# Altium schematic symbol library SCH - MCU - STM32 - ST MICROELECTRONICS STM32H725AEIX UFBGA169.SchLib: 1 symbol
Pins are listed as number, name and electrical type; pins without a type are passive.

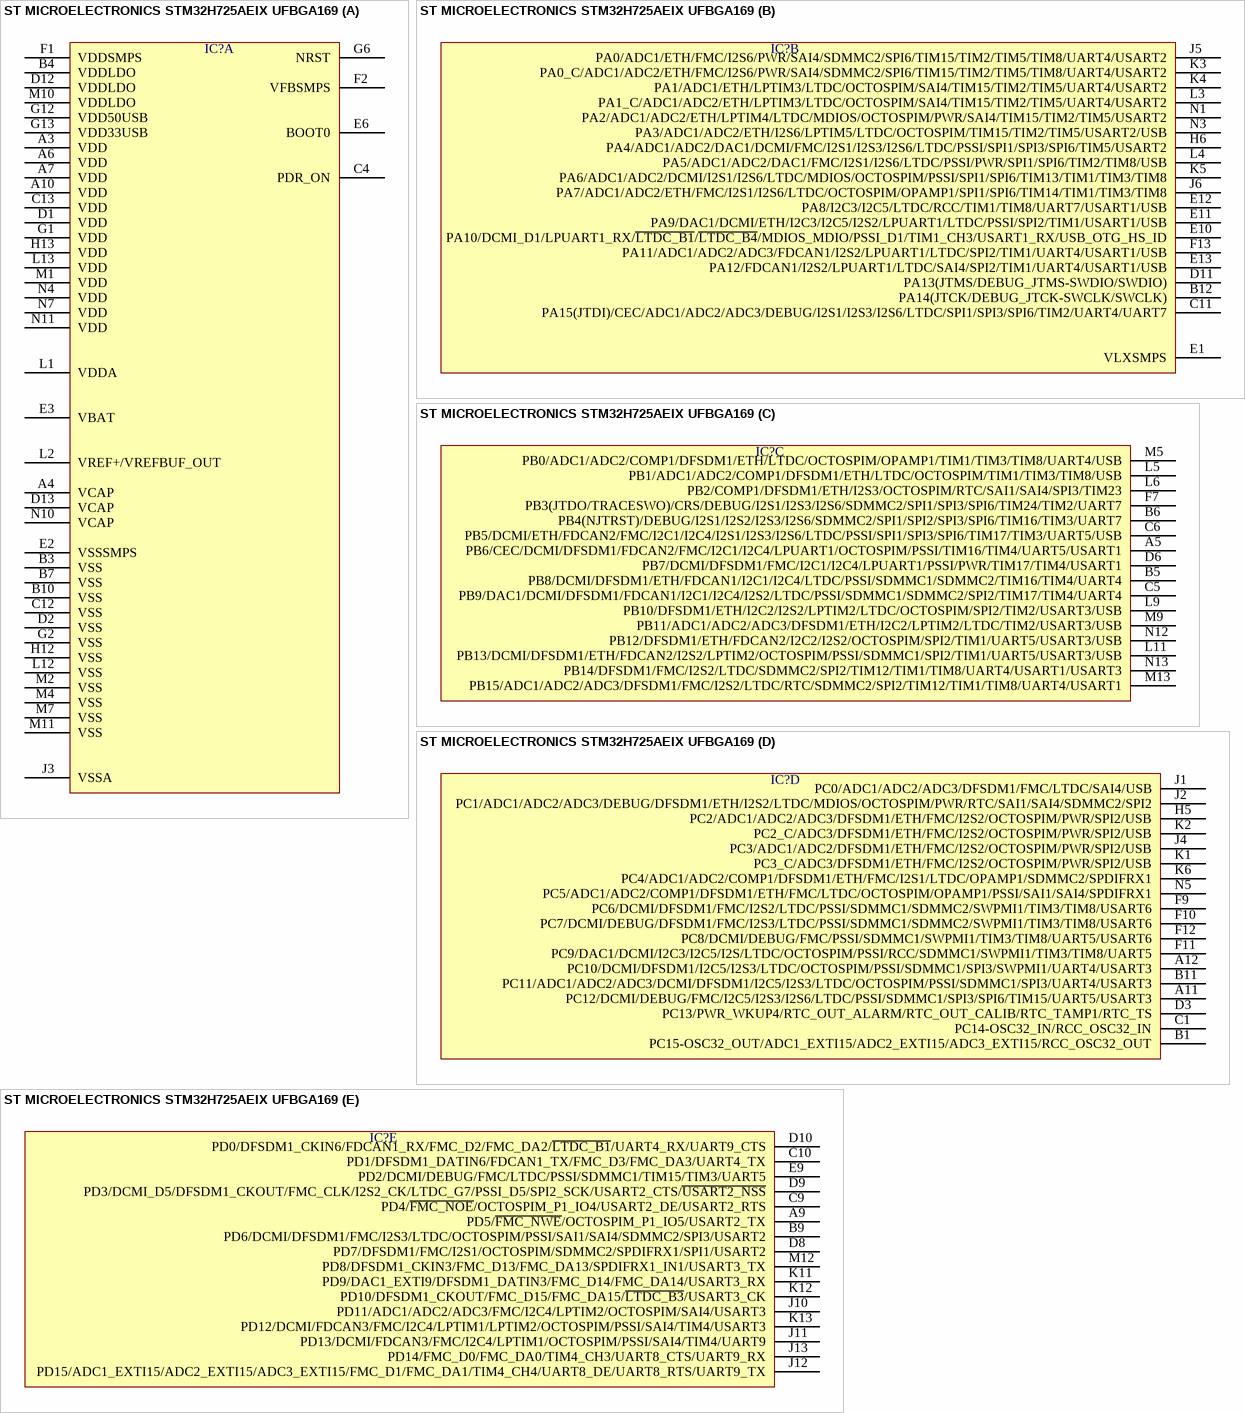
[diagram p0: symbol ST MICROELECTRONICS STM32H725AEIX UFBGA169]

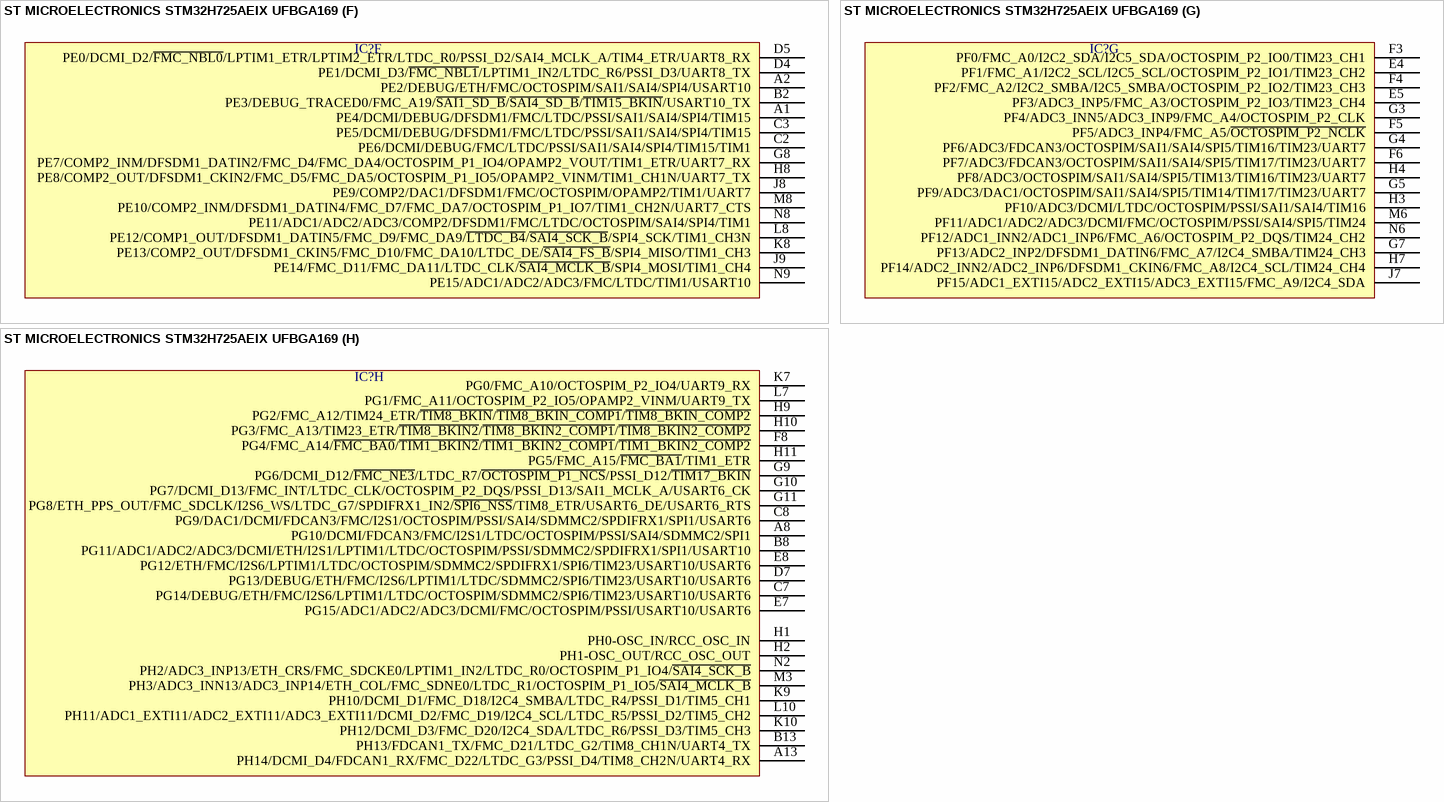
[diagram p1: symbol ST MICROELECTRONICS STM32H725AEIX UFBGA169]

## ST MICROELECTRONICS STM32H725AEIX UFBGA169
designator IC?  (value not drawn)
part A pins: A3 VDD, A4 VCAP, A6 VDD, A7 VDD, A10 VDD, B3 VSS, B4 VDDLDO, B7 VSS, B10 VSS, C4 PDR_ON, C12 VSS, C13 VDD, D1 VDD, D2 VSS, D12 VDDLDO, D13 VCAP, E2 VSSSMPS, E3 VBAT, E6 BOOT0, F1 VDDSMPS, F2 VFBSMPS, G1 VDD, G2 VSS, G6 NRST, G12 VDD50USB, G13 VDD33USB, H12 VSS, H13 VDD, J3 VSSA, L1 VDDA, L2 VREF+/VREFBUF_OUT, L12 VSS, L13 VDD, M1 VDD, M2 VSS, M4 VSS, M7 VSS, M10 VDDLDO, M11 VSS, N4 VDD, N7 VDD, N10 VCAP, N11 VDD
part B pins: B12 PA14(JTCK/DEBUG_JTCK-SWCLK/SWCLK), C11 PA15(JTDI)/CEC/ADC1/ADC2/ADC3/DEBUG/I2S1/I2S3/I2S6/LTDC/SPI1/SPI3/SPI6/TIM2/UART4/UART7, D11 PA13(JTMS/DEBUG_JTMS-SWDIO/SWDIO), E1 VLXSMPS, E10 PA10/DCMI_D1/LPUART1_RX/~{LTDC_B1}/~{LTDC_B4}/MDIOS_MDIO/PSSI_D1/TIM1_CH3/USART1_RX/USB_OTG_HS_ID, E11 PA9/DAC1/DCMI/ETH/I2C3/I2C5/I2S2/LPUART1/LTDC/PSSI/SPI2/TIM1/USART1/USB, E12 PA8/I2C3/I2C5/LTDC/RCC/TIM1/TIM8/UART7/USART1/USB, E13 PA12/FDCAN1/I2S2/LPUART1/LTDC/SAI4/SPI2/TIM1/UART4/USART1/USB, F13 PA11/ADC1/ADC2/ADC3/FDCAN1/I2S2/LPUART1/LTDC/SPI2/TIM1/UART4/USART1/USB, H6 PA4/ADC1/ADC2/DAC1/DCMI/FMC/I2S1/I2S3/I2S6/LTDC/PSSI/SPI1/SPI3/SPI6/TIM5/USART2, J5 PA0/ADC1/ETH/FMC/I2S6/PWR/SAI4/SDMMC2/SPI6/TIM15/TIM2/TIM5/TIM8/UART4/USART2, J6 PA7/ADC1/ADC2/ETH/FMC/I2S1/I2S6/LTDC/OCTOSPIM/OPAMP1/SPI1/SPI6/TIM14/TIM1/TIM3/TIM8, K3 PA0_C/ADC1/ADC2/ETH/FMC/I2S6/PWR/SAI4/SDMMC2/SPI6/TIM15/TIM2/TIM5/TIM8/UART4/USART2, K4 PA1/ADC1/ETH/LPTIM3/LTDC/OCTOSPIM/SAI4/TIM15/TIM2/TIM5/UART4/USART2, K5 PA6/ADC1/ADC2/DCMI/I2S1/I2S6/LTDC/MDIOS/OCTOSPIM/PSSI/SPI1/SPI6/TIM13/TIM1/TIM3/TIM8, L3 PA1_C/ADC1/ADC2/ETH/LPTIM3/LTDC/OCTOSPIM/SAI4/TIM15/TIM2/TIM5/UART4/USART2, L4 PA5/ADC1/ADC2/DAC1/FMC/I2S1/I2S6/LTDC/PSSI/PWR/SPI1/SPI6/TIM2/TIM8/USB, N1 PA2/ADC1/ADC2/ETH/LPTIM4/LTDC/MDIOS/OCTOSPIM/PWR/SAI4/TIM15/TIM2/TIM5/USART2, N3 PA3/ADC1/ADC2/ETH/I2S6/LPTIM5/LTDC/OCTOSPIM/TIM15/TIM2/TIM5/USART2/USB
part C pins: A5 PB6/CEC/DCMI/DFSDM1/FDCAN2/FMC/I2C1/I2C4/LPUART1/OCTOSPIM/PSSI/TIM16/TIM4/UART5/USART1, B5 PB8/DCMI/DFSDM1/ETH/FDCAN1/I2C1/I2C4/LTDC/PSSI/SDMMC1/SDMMC2/TIM16/TIM4/UART4, B6 PB4(NJTRST)/DEBUG/I2S1/I2S2/I2S3/I2S6/SDMMC2/SPI1/SPI2/SPI3/SPI6/TIM16/TIM3/UART7, C5 PB9/DAC1/DCMI/DFSDM1/FDCAN1/I2C1/I2C4/I2S2/LTDC/PSSI/SDMMC1/SDMMC2/SPI2/TIM17/TIM4/UART4, C6 PB5/DCMI/ETH/FDCAN2/FMC/I2C1/I2C4/I2S1/I2S3/I2S6/LTDC/PSSI/SPI1/SPI3/SPI6/TIM17/TIM3/UART5/USB, D6 PB7/DCMI/DFSDM1/FMC/I2C1/I2C4/LPUART1/PSSI/PWR/TIM17/TIM4/USART1, F7 PB3(JTDO/TRACESWO)/CRS/DEBUG/I2S1/I2S3/I2S6/SDMMC2/SPI1/SPI3/SPI6/TIM24/TIM2/UART7, L5 PB1/ADC1/ADC2/COMP1/DFSDM1/ETH/LTDC/OCTOSPIM/TIM1/TIM3/TIM8/USB, L6 PB2/COMP1/DFSDM1/ETH/I2S3/OCTOSPIM/RTC/SAI1/SAI4/SPI3/TIM23, L9 PB10/DFSDM1/ETH/I2C2/I2S2/LPTIM2/LTDC/OCTOSPIM/SPI2/TIM2/USART3/USB, L11 PB13/DCMI/DFSDM1/ETH/FDCAN2/I2S2/LPTIM2/OCTOSPIM/PSSI/SDMMC1/SPI2/TIM1/UART5/USART3/USB, M5 PB0/ADC1/ADC2/COMP1/DFSDM1/ETH/LTDC/OCTOSPIM/OPAMP1/TIM1/TIM3/TIM8/UART4/USB, M9 PB11/ADC1/ADC2/ADC3/DFSDM1/ETH/I2C2/LPTIM2/LTDC/TIM2/USART3/USB, M13 PB15/ADC1/ADC2/ADC3/DFSDM1/FMC/I2S2/LTDC/RTC/SDMMC2/SPI2/TIM12/TIM1/TIM8/UART4/USART1, N12 PB12/DFSDM1/ETH/FDCAN2/I2C2/I2S2/OCTOSPIM/SPI2/TIM1/UART5/USART3/USB, N13 PB14/DFSDM1/FMC/I2S2/LTDC/SDMMC2/SPI2/TIM12/TIM1/TIM8/UART4/USART1/USART3
part D pins: A11 PC12/DCMI/DEBUG/FMC/I2C5/I2S3/I2S6/LTDC/PSSI/SDMMC1/SPI3/SPI6/TIM15/UART5/USART3, A12 PC10/DCMI/DFSDM1/I2C5/I2S3/LTDC/OCTOSPIM/PSSI/SDMMC1/SPI3/SWPMI1/UART4/USART3, B1 PC15-OSC32_OUT/ADC1_EXTI15/ADC2_EXTI15/ADC3_EXTI15/RCC_OSC32_OUT, B11 PC11/ADC1/ADC2/ADC3/DCMI/DFSDM1/I2C5/I2S3/LTDC/OCTOSPIM/PSSI/SDMMC1/SPI3/UART4/USART3, C1 PC14-OSC32_IN/RCC_OSC32_IN, D3 PC13/PWR_WKUP4/RTC_OUT_ALARM/RTC_OUT_CALIB/RTC_TAMP1/RTC_TS, F9 PC6/DCMI/DFSDM1/FMC/I2S2/LTDC/PSSI/SDMMC1/SDMMC2/SWPMI1/TIM3/TIM8/USART6, F10 PC7/DCMI/DEBUG/DFSDM1/FMC/I2S3/LTDC/PSSI/SDMMC1/SDMMC2/SWPMI1/TIM3/TIM8/USART6, F11 PC9/DAC1/DCMI/I2C3/I2C5/I2S/LTDC/OCTOSPIM/PSSI/RCC/SDMMC1/SWPMI1/TIM3/TIM8/UART5, F12 PC8/DCMI/DEBUG/FMC/PSSI/SDMMC1/SWPMI1/TIM3/TIM8/UART5/USART6, H5 PC2/ADC1/ADC2/ADC3/DFSDM1/ETH/FMC/I2S2/OCTOSPIM/PWR/SPI2/USB, J1 PC0/ADC1/ADC2/ADC3/DFSDM1/FMC/LTDC/SAI4/USB, J2 PC1/ADC1/ADC2/ADC3/DEBUG/DFSDM1/ETH/I2S2/LTDC/MDIOS/OCTOSPIM/PWR/RTC/SAI1/SAI4/SDMMC2/SPI2, J4 PC3/ADC1/ADC2/DFSDM1/ETH/FMC/I2S2/OCTOSPIM/PWR/SPI2/USB, K1 PC3_C/ADC3/DFSDM1/ETH/FMC/I2S2/OCTOSPIM/PWR/SPI2/USB, K2 PC2_C/ADC3/DFSDM1/ETH/FMC/I2S2/OCTOSPIM/PWR/SPI2/USB, K6 PC4/ADC1/ADC2/COMP1/DFSDM1/ETH/FMC/I2S1/LTDC/OPAMP1/SDMMC2/SPDIFRX1, N5 PC5/ADC1/ADC2/COMP1/DFSDM1/ETH/FMC/LTDC/OCTOSPIM/OPAMP1/PSSI/SAI1/SAI4/SPDIFRX1
part E pins: A9 PD5/~{FMC_NWE}/OCTOSPIM_P1_IO5/USART2_TX, B9 PD6/DCMI/DFSDM1/FMC/I2S3/LTDC/OCTOSPIM/PSSI/SAI1/SAI4/SDMMC2/SPI3/USART2, C9 PD4/~{FMC_NOE}/OCTOSPIM_P1_IO4/USART2_DE/USART2_RTS, C10 PD1/DFSDM1_DATIN6/FDCAN1_TX/FMC_D3/FMC_DA3/UART4_TX, D8 PD7/DFSDM1/FMC/I2S1/OCTOSPIM/SDMMC2/SPDIFRX1/SPI1/USART2, D9 PD3/DCMI_D5/DFSDM1_CKOUT/FMC_CLK/I2S2_CK/LTDC_G7/PSSI_D5/SPI2_SCK/USART2_CTS/~{USART2_NSS}, D10 PD0/DFSDM1_CKIN6/FDCAN1_RX/FMC_D2/FMC_DA2/~{LTDC_B1}/UART4_RX/UART9_CTS, E9 PD2/DCMI/DEBUG/FMC/LTDC/PSSI/SDMMC1/TIM15/TIM3/UART5, J10 PD11/ADC1/ADC2/ADC3/FMC/I2C4/LPTIM2/OCTOSPIM/SAI4/USART3, J11 PD13/DCMI/FDCAN3/FMC/I2C4/LPTIM1/OCTOSPIM/PSSI/SAI4/TIM4/UART9, J12 PD15/ADC1_EXTI15/ADC2_EXTI15/ADC3_EXTI15/FMC_D1/FMC_DA1/TIM4_CH4/UART8_DE/UART8_RTS/UART9_TX, J13 PD14/FMC_D0/FMC_DA0/TIM4_CH3/UART8_CTS/UART9_RX, K11 PD9/DAC1_EXTI9/DFSDM1_DATIN3/FMC_D14/FMC_DA14/USART3_RX, K12 PD10/DFSDM1_CKOUT/FMC_D15/FMC_DA15/~{LTDC_B3}/USART3_CK, K13 PD12/DCMI/FDCAN3/FMC/I2C4/LPTIM1/LPTIM2/OCTOSPIM/PSSI/SAI4/TIM4/USART3, M12 PD8/DFSDM1_CKIN3/FMC_D13/FMC_DA13/SPDIFRX1_IN1/USART3_TX
part F pins: A1 PE4/DCMI/DEBUG/DFSDM1/FMC/LTDC/PSSI/SAI1/SAI4/SPI4/TIM15, A2 PE2/DEBUG/ETH/FMC/OCTOSPIM/SAI1/SAI4/SPI4/USART10, B2 PE3/DEBUG_TRACED0/FMC_A19/~{SAI1_SD_B}/~{SAI4_SD_B}/~{TIM15_BKIN}/USART10_TX, C2 PE6/DCMI/DEBUG/FMC/LTDC/PSSI/SAI1/SAI4/SPI4/TIM15/TIM1, C3 PE5/DCMI/DEBUG/DFSDM1/FMC/LTDC/PSSI/SAI1/SAI4/SPI4/TIM15, D4 PE1/DCMI_D3/~{FMC_NBL1}/LPTIM1_IN2/LTDC_R6/PSSI_D3/UART8_TX, D5 PE0/DCMI_D2/~{FMC_NBL0}/LPTIM1_ETR/LPTIM2_ETR/LTDC_R0/PSSI_D2/SAI4_MCLK_A/TIM4_ETR/UART8_RX, G8 PE7/COMP2_INM/DFSDM1_DATIN2/FMC_D4/FMC_DA4/OCTOSPIM_P1_IO4/OPAMP2_VOUT/TIM1_ETR/UART7_RX, H8 PE8/COMP2_OUT/DFSDM1_CKIN2/FMC_D5/FMC_DA5/OCTOSPIM_P1_IO5/OPAMP2_VINM/TIM1_CH1N/UART7_TX, J8 PE9/COMP2/DAC1/DFSDM1/FMC/OCTOSPIM/OPAMP2/TIM1/UART7, J9 PE14/FMC_D11/FMC_DA11/LTDC_CLK/~{SAI4_MCLK_B}/SPI4_MOSI/TIM1_CH4, K8 PE13/COMP2_OUT/DFSDM1_CKIN5/FMC_D10/FMC_DA10/LTDC_DE/~{SAI4_FS_B}/SPI4_MISO/TIM1_CH3, L8 PE12/COMP1_OUT/DFSDM1_DATIN5/FMC_D9/FMC_DA9/~{LTDC_B4}/~{SAI4_SCK_B}/SPI4_SCK/TIM1_CH3N, M8 PE10/COMP2_INM/DFSDM1_DATIN4/FMC_D7/FMC_DA7/OCTOSPIM_P1_IO7/TIM1_CH2N/UART7_CTS, N8 PE11/ADC1/ADC2/ADC3/COMP2/DFSDM1/FMC/LTDC/OCTOSPIM/SAI4/SPI4/TIM1, N9 PE15/ADC1/ADC2/ADC3/FMC/LTDC/TIM1/USART10
part G pins: E4 PF1/FMC_A1/I2C2_SCL/I2C5_SCL/OCTOSPIM_P2_IO1/TIM23_CH2, E5 PF3/ADC3_INP5/FMC_A3/OCTOSPIM_P2_IO3/TIM23_CH4, F3 PF0/FMC_A0/I2C2_SDA/I2C5_SDA/OCTOSPIM_P2_IO0/TIM23_CH1, F4 PF2/FMC_A2/I2C2_SMBA/I2C5_SMBA/OCTOSPIM_P2_IO2/TIM23_CH3, F5 PF5/ADC3_INP4/FMC_A5/~{OCTOSPIM_P2_NCLK}, F6 PF7/ADC3/FDCAN3/OCTOSPIM/SAI1/SAI4/SPI5/TIM17/TIM23/UART7, G3 PF4/ADC3_INN5/ADC3_INP9/FMC_A4/OCTOSPIM_P2_CLK, G4 PF6/ADC3/FDCAN3/OCTOSPIM/SAI1/SAI4/SPI5/TIM16/TIM23/UART7, G5 PF9/ADC3/DAC1/OCTOSPIM/SAI1/SAI4/SPI5/TIM14/TIM17/TIM23/UART7, G7 PF13/ADC2_INP2/DFSDM1_DATIN6/FMC_A7/I2C4_SMBA/TIM24_CH3, H3 PF10/ADC3/DCMI/LTDC/OCTOSPIM/PSSI/SAI1/SAI4/TIM16, H4 PF8/ADC3/OCTOSPIM/SAI1/SAI4/SPI5/TIM13/TIM16/TIM23/UART7, H7 PF14/ADC2_INN2/ADC2_INP6/DFSDM1_CKIN6/FMC_A8/I2C4_SCL/TIM24_CH4, J7 PF15/ADC1_EXTI15/ADC2_EXTI15/ADC3_EXTI15/FMC_A9/I2C4_SDA, M6 PF11/ADC1/ADC2/ADC3/DCMI/FMC/OCTOSPIM/PSSI/SAI4/SPI5/TIM24, N6 PF12/ADC1_INN2/ADC1_INP6/FMC_A6/OCTOSPIM_P2_DQS/TIM24_CH2
part H pins: A8 PG10/DCMI/FDCAN3/FMC/I2S1/LTDC/OCTOSPIM/PSSI/SAI4/SDMMC2/SPI1, A13 PH14/DCMI_D4/FDCAN1_RX/FMC_D22/LTDC_G3/PSSI_D4/TIM8_CH2N/UART4_RX, B8 PG11/ADC1/ADC2/ADC3/DCMI/ETH/I2S1/LPTIM1/LTDC/OCTOSPIM/PSSI/SDMMC2/SPDIFRX1/SPI1/USART10, B13 PH13/FDCAN1_TX/FMC_D21/LTDC_G2/TIM8_CH1N/UART4_TX, C7 PG14/DEBUG/ETH/FMC/I2S6/LPTIM1/LTDC/OCTOSPIM/SDMMC2/SPI6/TIM23/USART10/USART6, C8 PG9/DAC1/DCMI/FDCAN3/FMC/I2S1/OCTOSPIM/PSSI/SAI4/SDMMC2/SPDIFRX1/SPI1/USART6, D7 PG13/DEBUG/ETH/FMC/I2S6/LPTIM1/LTDC/SDMMC2/SPI6/TIM23/USART10/USART6, E7 PG15/ADC1/ADC2/ADC3/DCMI/FMC/OCTOSPIM/PSSI/USART10/USART6, E8 PG12/ETH/FMC/I2S6/LPTIM1/LTDC/OCTOSPIM/SDMMC2/SPDIFRX1/SPI6/TIM23/USART10/USART6, F8 PG4/FMC_A14/~{FMC_BA0}/~{TIM1_BKIN2}/~{TIM1_BKIN2_COMP1}/~{TIM1_BKIN2_COMP2}, G9 PG6/DCMI_D12/~{FMC_NE3}/LTDC_R7/~{OCTOSPIM_P1_NCS}/PSSI_D12/~{TIM17_BKIN}, G10 PG7/DCMI_D13/FMC_INT/LTDC_CLK/OCTOSPIM_P2_DQS/PSSI_D13/SAI1_MCLK_A/USART6_CK, G11 PG8/ETH_PPS_OUT/FMC_SDCLK/I2S6_WS/LTDC_G7/SPDIFRX1_IN2/~{SPI6_NSS}/TIM8_ETR/USART6_DE/USART6_RTS, H1 PH0-OSC_IN/RCC_OSC_IN, H2 PH1-OSC_OUT/RCC_OSC_OUT, H9 PG2/FMC_A12/TIM24_ETR/~{TIM8_BKIN}/~{TIM8_BKIN_COMP1}/~{TIM8_BKIN_COMP2}, H10 PG3/FMC_A13/TIM23_ETR/~{TIM8_BKIN2}/~{TIM8_BKIN2_COMP1}/~{TIM8_BKIN2_COMP2}, H11 PG5/FMC_A15/~{FMC_BA1}/TIM1_ETR, K7 PG0/FMC_A10/OCTOSPIM_P2_IO4/UART9_RX, K9 PH10/DCMI_D1/FMC_D18/I2C4_SMBA/LTDC_R4/PSSI_D1/TIM5_CH1, K10 PH12/DCMI_D3/FMC_D20/I2C4_SDA/LTDC_R6/PSSI_D3/TIM5_CH3, L7 PG1/FMC_A11/OCTOSPIM_P2_IO5/OPAMP2_VINM/UART9_TX, L10 PH11/ADC1_EXTI11/ADC2_EXTI11/ADC3_EXTI11/DCMI_D2/FMC_D19/I2C4_SCL/LTDC_R5/PSSI_D2/TIM5_CH2, M3 PH3/ADC3_INN13/ADC3_INP14/ETH_COL/FMC_SDNE0/LTDC_R1/OCTOSPIM_P1_IO5/~{SAI4_MCLK_B}, N2 PH2/ADC3_INP13/ETH_CRS/FMC_SDCKE0/LPTIM1_IN2/LTDC_R0/OCTOSPIM_P1_IO4/~{SAI4_SCK_B}